# Altium footprint library infineon.PcbLib: 6 footprints
Each footprint in its own frame and in the unit in brackets; x right, y up, seen from the top. Pads: shape width x height; smd on the part's side, far side on the other; paste and mask are expansions set on the pad; w line width, h text height; cw(c..) or ccw(c..) is an arc to the next point about the centre after c.
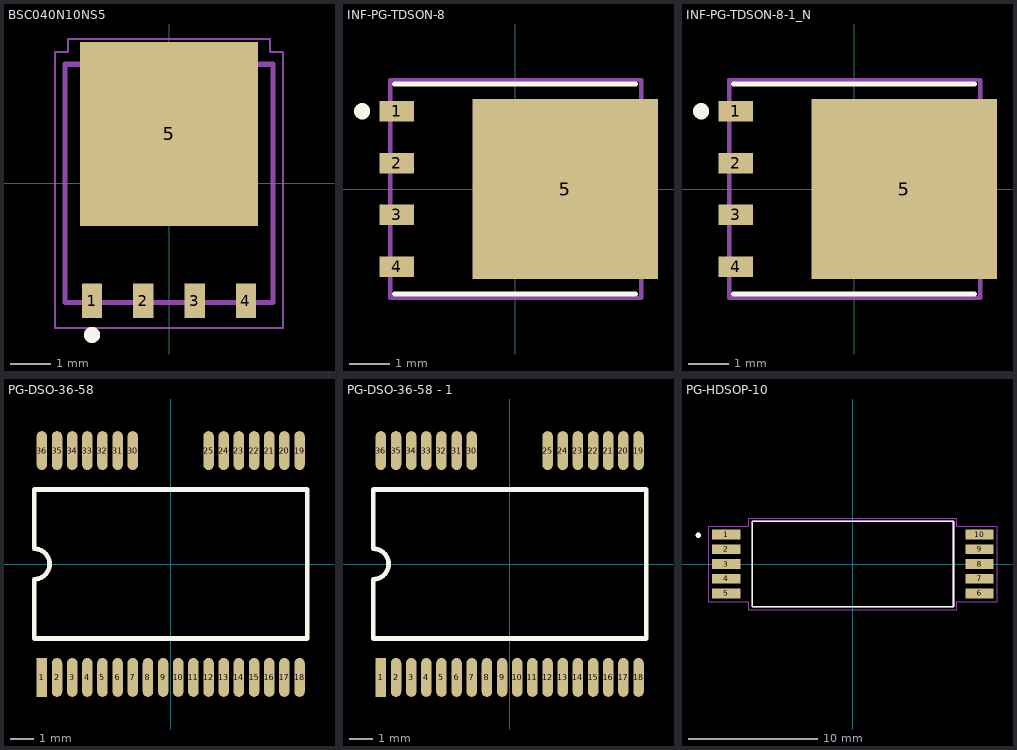
[diagram p0: the footprints below, top view; thin cyan lines are the x and y axes]

## BSC040N10NS5 [mm]
height 1.1
pads (5):
  rect 0.5x0.85 smd: 1(-1.905,-2.9) 2(-0.635,-2.9) 3(0.635,-2.9) 4(1.905,-2.9)
  rect 4.41x4.55 smd: 5(0,1.225)
Top Overlay:
  circle w0.2: c-1.905,-3.75 r0.1
Top Paste:
  region: -2.162,3.28 -1.655,3.28 -1.655,2.538 -2.162,2.538
  region: -0.887,3.28 -0.385,3.28 -0.385,2.536 -0.887,2.536
  region: 0.386,3.28 0.885,3.28 0.885,2.535 0.386,2.535
  region: 1.656,3.28 2.155,3.28 2.155,2.532 1.656,2.532
  region: -1.603,0.55 -0.1,0.55 -0.1,-0.952 -1.603,-0.952
  region: 0.1,0.55 1.6,0.55 1.6,-0.952 0.1,-0.952
  region: 0.1,2.25 1.6,2.25 1.6,0.75 0.1,0.75
  region: -1.603,2.25 -0.1,2.25 -0.1,0.751 -1.603,0.751
Mechanical 4:
  region: -2.158,3 -1.655,3 -1.655,2.504 -2.158,2.504
  region: -0.888,3 -0.385,3 -0.385,2.51 -0.888,2.51
  region: 0.386,3 0.885,3 0.885,2.505 0.386,2.505
  region: 1.658,3 2.155,3 2.155,2.504 1.658,2.504
  region: -2.158,3 -1.655,3 -1.655,2.504 -2.158,2.504
  region: -0.888,3 -0.385,3 -0.385,2.51 -0.888,2.51
  region: 0.386,3 0.885,3 0.885,2.505 0.386,2.505
  region: 1.658,3 2.155,3 2.155,2.504 1.658,2.504
  lines w0.127: -2.575,-2.95 2.575,-2.95 ; -2.575,-2.95 -2.575,2.95 ; -2.575,-2.95 2.575,-2.95 ; -2.575,-2.95 -2.575,2.95 ; -2.575,2.95 2.575,2.95 ; -2.575,2.95 2.575,2.95 ; 2.575,-2.95 2.575,2.95 ; 2.575,-2.95 2.575,2.95
Mechanical 16:
  lines w0.05: -2.825,-3.575 2.825,-3.575 2.825,3.25 2.5,3.25 2.5,3.575 -2.5,3.575 -2.5,3.25 -2.825,3.25 -2.825,-3.575

## INF-PG-TDSON-8 [mm] "TDSON, 8-Leads, Body 6.15x5.15mm, Pitch 1.27mm"
height 1
pads (5):
  rect 0.85x0.5 smd: 1(-2.9,1.905) 2(-2.9,0.635) 3(-2.9,-0.635) 4(-2.9,-1.905)
  rect 4.55x4.41 smd: 5(1.225,0)
Top Overlay:
  circle w0.2: c-3.75,1.905 r0.1
  lines w0.127: -2.95,-2.575 2.95,-2.575 ; -2.95,2.575 2.95,2.575
Top Paste:
  region: 3.28,2.162 3.28,1.655 2.538,1.655 2.538,2.162
  region: 3.28,0.887 3.28,0.385 2.536,0.385 2.536,0.887
  region: 3.28,-0.386 3.28,-0.885 2.535,-0.885 2.535,-0.386
  region: 3.28,-1.656 3.28,-2.155 2.532,-2.155 2.532,-1.656
  region: 0.55,1.603 0.55,0.1 -0.952,0.1 -0.952,1.603
  region: 0.55,-0.1 0.55,-1.6 -0.952,-1.6 -0.952,-0.1
  region: 2.25,-0.1 2.25,-1.6 0.75,-1.6 0.75,-0.1
  region: 2.25,1.603 2.25,0.1 0.751,0.1 0.751,1.603
Mechanical 4:
  region: 3,2.158 3,1.655 2.504,1.655 2.504,2.158
  region: 3,0.888 3,0.385 2.51,0.385 2.51,0.888
  region: 3,-0.386 3,-0.885 2.505,-0.885 2.505,-0.386
  region: 3,-1.658 3,-2.155 2.504,-2.155 2.504,-1.658
  region: 3,2.158 3,1.655 2.504,1.655 2.504,2.158
  region: 3,0.888 3,0.385 2.51,0.385 2.51,0.888
  region: 3,-0.386 3,-0.885 2.505,-0.885 2.505,-0.386
  region: 3,-1.658 3,-2.155 2.504,-2.155 2.504,-1.658
Mechanical 13:
  lines w0.1: -3.059,-2.667 3.091,-2.667 3.091,2.667 -3.059,2.667 -3.059,-2.667
3D body "TDSON-8-1.stp": height 1.01, standoff 0, extent -3.059,-2.695 3.091,2.695

## INF-PG-TDSON-8-1_N [mm] "TDSON, 8-Leads, Body 6.15x5.15mm, Pitch 1.27mm"
height 1
pads (5):
  rect 0.85x0.5 smd: 1(-2.9,1.905) 2(-2.9,0.635) 3(-2.9,-0.635) 4(-2.9,-1.905)
  rect 4.55x4.41 smd: 5(1.225,0)
Top Overlay:
  circle w0.2: c-3.75,1.905 r0.1
  lines w0.127: -2.95,-2.575 2.95,-2.575 ; -2.95,2.575 2.95,2.575
Top Paste:
  region: 3.28,2.162 3.28,1.655 2.538,1.655 2.538,2.162
  region: 3.28,0.887 3.28,0.385 2.536,0.385 2.536,0.887
  region: 3.28,-0.386 3.28,-0.885 2.535,-0.885 2.535,-0.386
  region: 3.28,-1.656 3.28,-2.155 2.532,-2.155 2.532,-1.656
  region: 0.55,1.603 0.55,0.1 -0.952,0.1 -0.952,1.603
  region: 0.55,-0.1 0.55,-1.6 -0.952,-1.6 -0.952,-0.1
  region: 2.25,-0.1 2.25,-1.6 0.75,-1.6 0.75,-0.1
  region: 2.25,1.603 2.25,0.1 0.751,0.1 0.751,1.603
Mechanical 4:
  region: 3,2.158 3,1.655 2.504,1.655 2.504,2.158
  region: 3,0.888 3,0.385 2.51,0.385 2.51,0.888
  region: 3,-0.386 3,-0.885 2.505,-0.885 2.505,-0.386
  region: 3,-1.658 3,-2.155 2.504,-2.155 2.504,-1.658
  region: 3,2.158 3,1.655 2.504,1.655 2.504,2.158
  region: 3,0.888 3,0.385 2.51,0.385 2.51,0.888
  region: 3,-0.386 3,-0.885 2.505,-0.885 2.505,-0.386
  region: 3,-1.658 3,-2.155 2.504,-2.155 2.504,-1.658
Mechanical 13:
  lines w0.1: -3.059,-2.667 3.091,-2.667 3.091,2.667 -3.059,2.667 -3.059,-2.667
3D body "TDSON-8-1.stp": height 1.01, standoff 0, extent -3.059,-2.695 3.091,2.695

## PG-DSO-36-58 [mm]
pads (32):
  rect 0.45x1.67 smd: 1(-5.525,-4.865)
  oval 0.45x1.67 smd: 2(-4.875,-4.865) 3(-4.225,-4.865) 4(-3.575,-4.865) 5(-2.925,-4.865) 6(-2.275,-4.865) 7(-1.625,-4.865) 8(-0.975,-4.865) 9(-0.325,-4.865) 10(0.325,-4.865) 11(0.975,-4.865) 12(1.625,-4.865) 13(2.275,-4.865) 14(2.925,-4.865) 15(3.575,-4.865) 16(4.225,-4.865) 17(4.875,-4.865) 18(5.525,-4.865) 19(5.525,4.865) 20(4.875,4.865) 21(4.225,4.865) 22(3.575,4.865) 23(2.925,4.865) 24(2.275,4.865) 25(1.625,4.865) 30(-1.625,4.865) 31(-2.275,4.865) 32(-2.925,4.865) 33(-3.575,4.865) 34(-4.225,4.865) 35(-4.875,4.865) 36(-5.525,4.865)
Top Overlay:
  lines w0.2: -5.85,-3.195 5.85,-3.195 5.85,3.195 -5.85,3.195 -5.85,0.655 cw(c-5.85,0) -5.85,-0.655 -5.85,-3.195
3D body "User Library-SOIC36-75mm-2ED020I12F2.STEP": height 2.77, standoff 0.02, extent -6.223,-5.25 6.477,5.25

## PG-DSO-36-58 - 1 [mm]
pads (32):
  rect 0.45x1.67 smd: 1(-5.525,-4.865)
  oval 0.45x1.67 smd: 2(-4.875,-4.865) 3(-4.225,-4.865) 4(-3.575,-4.865) 5(-2.925,-4.865) 6(-2.275,-4.865) 7(-1.625,-4.865) 8(-0.975,-4.865) 9(-0.325,-4.865) 10(0.325,-4.865) 11(0.975,-4.865) 12(1.625,-4.865) 13(2.275,-4.865) 14(2.925,-4.865) 15(3.575,-4.865) 16(4.225,-4.865) 17(4.875,-4.865) 18(5.525,-4.865) 19(5.525,4.865) 20(4.875,4.865) 21(4.225,4.865) 22(3.575,4.865) 23(2.925,4.865) 24(2.275,4.865) 25(1.625,4.865) 30(-1.625,4.865) 31(-2.275,4.865) 32(-2.925,4.865) 33(-3.575,4.865) 34(-4.225,4.865) 35(-4.875,4.865) 36(-5.525,4.865)
Top Overlay:
  lines w0.2: -5.85,-3.195 -5.85,-0.655 ccw(c-5.85,0) -5.85,0.655 -5.85,3.195 5.85,3.195 5.85,-3.195 -5.85,-3.195
3D body "User Library-SOIC36-75mm-2ED020I12F2.STEP": height 2.77, standoff 0.02, extent -6.223,-5.25 6.477,5.25

## PG-HDSOP-10 [mm]
height 2.3
pads (10):
  rect 2.2x0.76 smd: 1(-9.815,2.28) 2(-9.815,1.14) 3(-9.815,0) 4(-9.815,-1.14) 5(-9.815,-2.28) 6(9.815,-2.28) 7(9.815,-1.14) 8(9.815,0) 9(9.815,1.14) 10(9.815,2.28)
Top Overlay:
  circle w0.2: c-11.98,2.23 r0.1
  lines w0.127: -7.8,-3.3 7.8,-3.3 7.8,3.3 -7.8,3.3 -7.8,-3.3
Mechanical 4:
  circle w0.2: c-11.98,2.23 r0.1
  circle w0.2: c-11.98,2.23 r0.1
  lines w0.127: -7.8,-3.3 7.8,-3.3 ; -7.8,-3.3 -7.8,3.3 ; -7.8,-3.3 7.8,-3.3 ; -7.8,-3.3 -7.8,3.3 ; -7.8,3.3 7.8,3.3 ; -7.8,3.3 7.8,3.3 ; 7.8,-3.3 7.8,3.3 ; 7.8,-3.3 7.8,3.3
Mechanical 16:
  lines w0.05: -11.17,-2.91 -8.05,-2.91 -8.05,-3.55 8.05,-3.55 8.05,-2.91 11.17,-2.91 11.17,2.91 8.05,2.91 8.05,3.55 -8.05,3.55 -8.05,2.91 -11.17,2.91 -11.17,-2.91
3D body "IPDD60R080G7XTMA1--3DModel-STEP-56544.STEP": height 2.48, standoff -0.02, extent -10.48,-3.25 10.48,3.25